# Altium footprint library 3362P.PcbLib: 1 footprints
Each footprint in its own frame and in the unit in brackets; x right, y up, seen from the top. Pads: shape width x height; smd on the part's side, far side on the other; paste and mask are expansions set on the pad; w line width, h text height; cw(c..) or ccw(c..) is an arc to the next point about the centre after c.
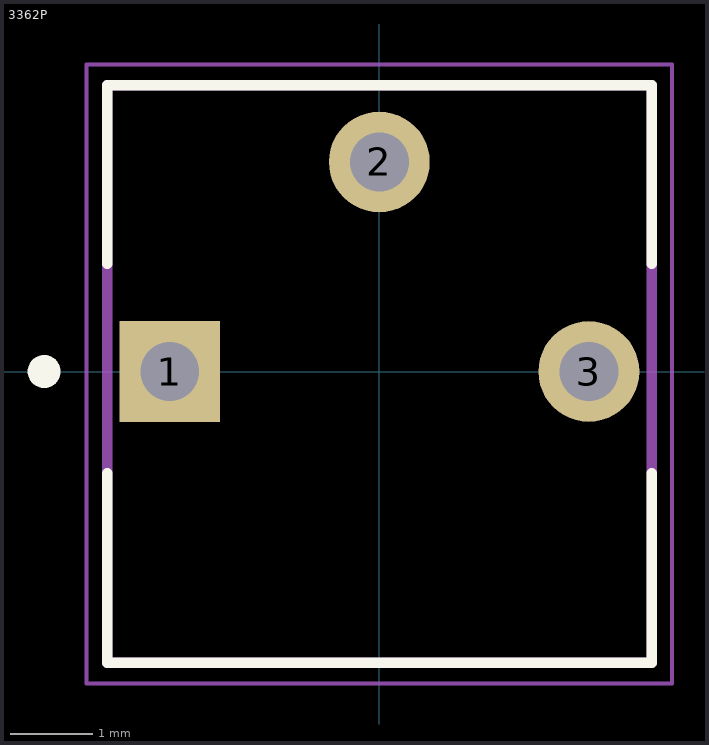
[diagram p0: the footprint, top view; thin cyan lines are the x and y axes]

## 3362P [mil]
pads (3):
  rect 48.11x48.11 hole 28.11: 1(-100,0)
  round 48.11 hole 28.11: 2(0,100) 3(100,0)
Top Overlay:
  circle w7.87: c-160,0 r3.94
  lines w5: -129.92,-138.98 129.92,-138.98 ; -129.92,-138.58 -129.92,-48.62 ; -129.92,51.38 -129.92,136.61 129.92,136.61 129.92,51.38 ; 129.92,-138.58 129.92,-48.62
Mechanical 13:
  lines w5: -129.92,-138.98 -129.92,136.61 129.92,136.61 129.92,-138.98 -129.92,-138.98
Mechanical 15:
  lines w1.97: -139.76,-148.82 -139.76,146.46 139.76,146.46 139.76,-148.82 -139.76,-148.82
3D body "step_temp.STEP": height 192.13, standoff -229.92, extent -129.92,-137.6 129.92,137.6